# Altium footprint library FF_pcb_lib.PcbLib: 102 footprints (part 1 of 7)
Each footprint in its own frame and in the unit in brackets; x right, y up, seen from the top. Pads: shape width x height; smd on the part's side, far side on the other; paste and mask are expansions set on the pad; w line width, h text height; cw(c..) or ccw(c..) is an arc to the next point about the centre after c.
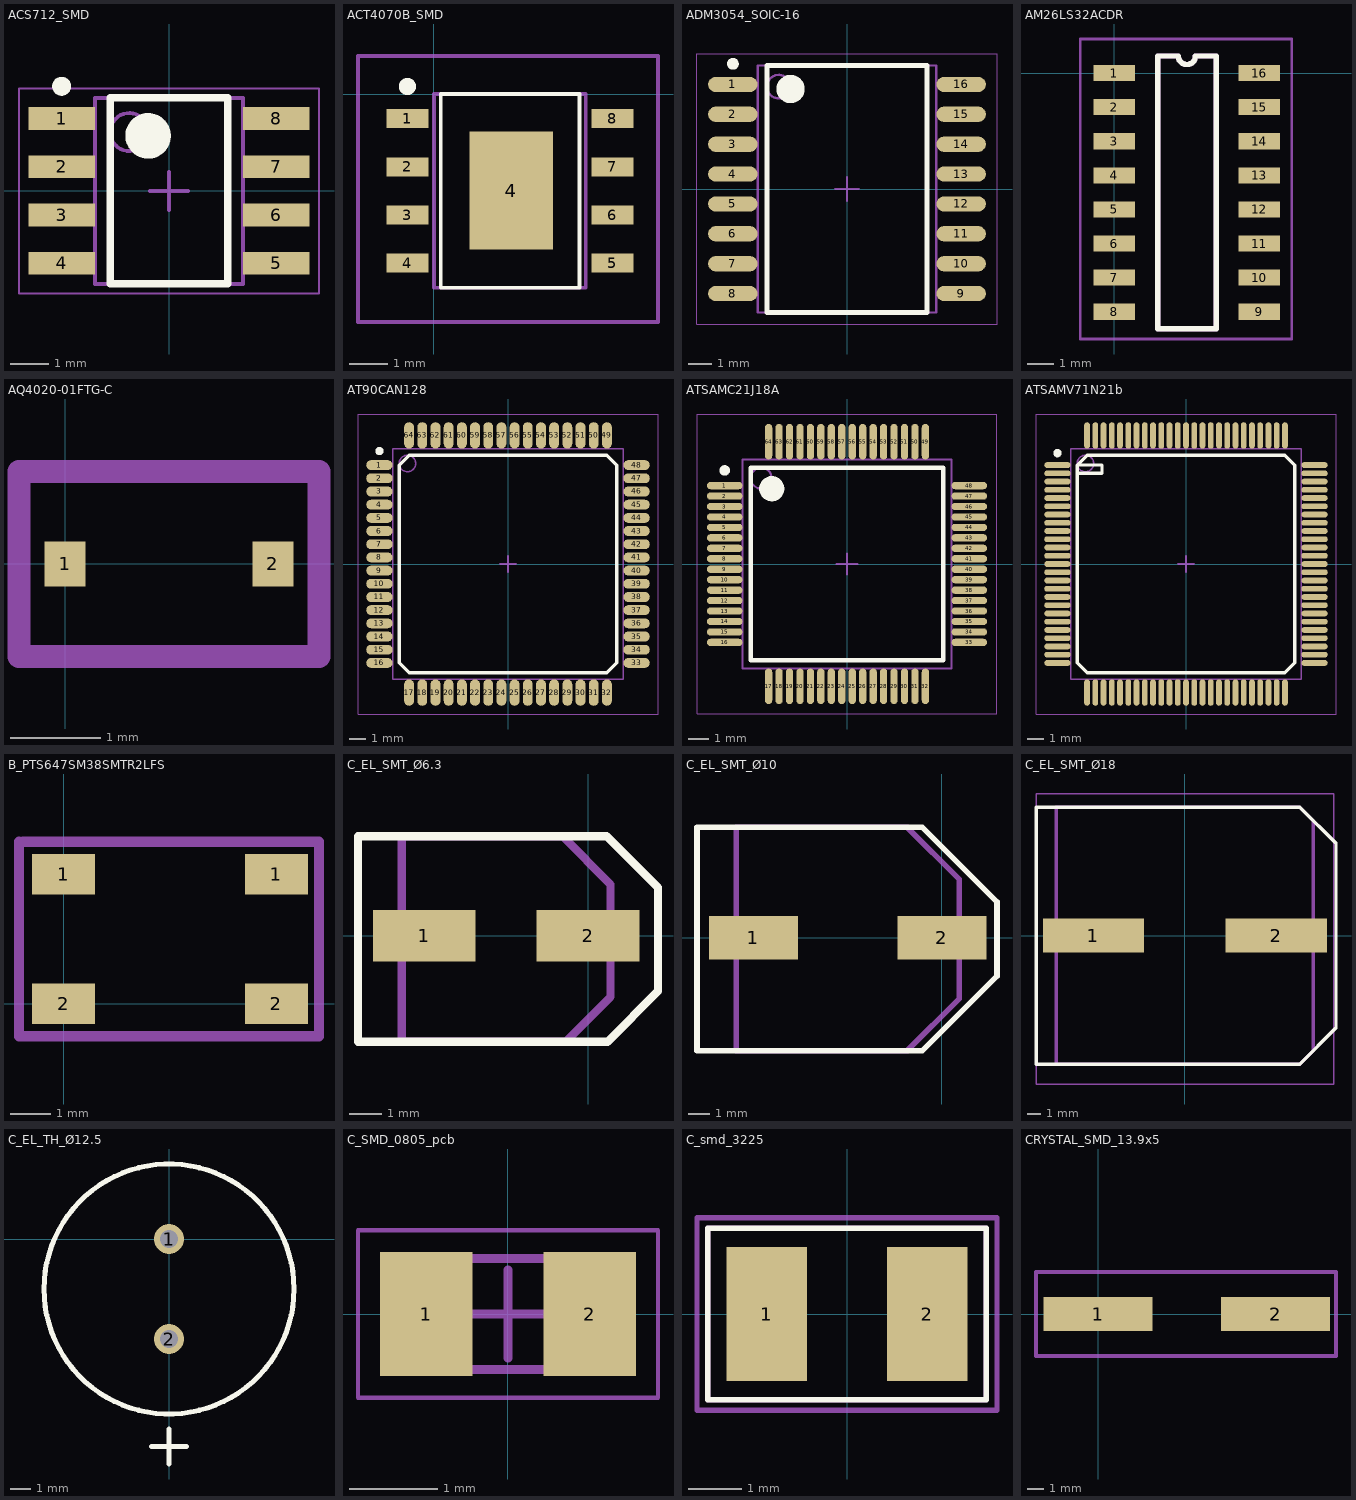
[diagram p0: the footprints below, top view; thin cyan lines are the x and y axes]

## ACS712_SMD [mm]
height 1.75
pads (8):
  rect 1.75x0.6 smd: 1(-2.825,1.905) 2(-2.825,0.635) 3(-2.825,-0.635) 4(-2.825,-1.905) 5(2.825,-1.905) 6(2.825,-0.635) 7(2.825,0.635) 8(2.825,1.905)
Top Overlay:
  circle w0.6: c-0.55,1.45 r0.3
  circle w0.25: c-2.825,2.755 r0.125
  lines w0.2: -1.55,-2.45 1.55,-2.45 1.55,2.45 -1.55,2.45 -1.55,-2.45
Mechanical 13:
  circle w0.1: c-1.05,1.55 r0.5
  lines w0.1: -1.95,-2.45 1.95,-2.45 1.95,2.45 -1.95,2.45 -1.95,-2.45
Mechanical 15:
  lines w0.05: -3.95,-2.7 3.95,-2.7 3.95,2.7 -3.95,2.7 -3.95,-2.7
  lines w0.1: -0.5,0 0.5,0 ; 0,-0.5 0,0.5
3D body "SOIC8-150-50.STEP": height 1.91, standoff 0, extent -3,-2.45 3,2.45

## ACT4070B_SMD [mm] "ACT4070B_SMD"
pads (9):
  rect 1.1x0.5 smd: 1(-0.7,-0.645) 2(-0.7,-1.915) 3(-0.7,-3.185) 4(-0.7,-4.455) 5(4.7,-4.455) 6(4.7,-3.185) 7(4.7,-1.915) 8(4.7,-0.645)
  rect 2.2x3.1 smd: 4(2.032,-2.54)
Top Overlay:
  circle w0.254: c-0.7,0.2 r0.1
  lines w0.1: 0.178,-5.1 3.835,-5.1 3.835,0 0.178,0 0.178,-5.1
Mechanical 13:
  lines w0.1: 0,-5.1 4,-5.1 4,0 0,0 0,-5.1
Mechanical 15:
  lines w0.1: -2,-6 -2,1 5.9,1 5.9,-6 -2,-6
3D body: height 1.05, standoff 0.05, extent 0.05,-5.15 3.95,-0.05

## ADM3054_SOIC-16 [mm]
height 2.65
pads (16):
  oval 2.1x0.65 smd: 1(-4.85,4.445) 2(-4.85,3.175) 3(-4.85,1.905) 4(-4.85,0.635) 5(-4.85,-0.635) 6(-4.85,-1.905) 7(-4.85,-3.175) 8(-4.85,-4.445) 9(4.85,-4.445) 10(4.85,-3.175) 11(4.85,-1.905) 12(4.85,-0.635) 13(4.85,0.635) 14(4.85,1.905) 15(4.85,3.175) 16(4.85,4.445)
Top Overlay:
  circle w0.6: c-2.4,4.25 r0.3
  circle w0.25: c-4.85,5.32 r0.125
  lines w0.2: -3.4,-5.25 3.4,-5.25 3.4,5.25 -3.4,5.25 -3.4,-5.25
Mechanical 13:
  circle w0.1: c-2.9,4.35 r0.5
  lines w0.1: -3.8,-5.25 3.8,-5.25 3.8,5.25 -3.8,5.25 -3.8,-5.25
Mechanical 15:
  lines w0.05: -6.375,-5.75 6.375,-5.75 6.375,5.75 -6.375,5.75 -6.375,-5.75
  lines w0.1: -0.5,0 0.5,0 ; 0,-0.5 0,0.5
3D body "S016W.stp": height 2.5, standoff 0, extent -5.15,-5.17 5.15,5.13

## AM26LS32ACDR [mm]
pads (16):
  rect 1.55x0.6 smd: 1(0,0) 2(0,-1.27) 3(0,-2.54) 4(0,-3.81) 5(0,-5.08) 6(0,-6.35) 7(0,-7.62) 8(0,-8.89) 9(5.4,-8.89) 10(5.4,-7.62) 11(5.4,-6.35) 12(5.4,-5.08) 13(5.4,-3.81) 14(5.4,-2.54) 15(5.4,-1.27) 16(5.4,0)
Top Overlay:
  lines w0.2: 1.61,-9.525 3.79,-9.525 3.79,0.635 3.017,0.635 cw(c2.7,0.635) 2.382,0.635 1.61,0.635 1.61,-9.525
Mechanical 13:
  lines w0.2: 1.61,-9.525 1.61,0.635 2.382,0.635 ccw(c2.7,0.635) 3.017,0.635 3.79,0.635 3.79,-9.525 1.61,-9.525
Mechanical 15:
  lines w0.1: -1.27,-9.906 6.604,-9.906 6.604,1.27 -1.27,1.27 -1.27,-9.906
3D body: height 1, standoff 0.1, extent 0.7,-9.8 0.7,-9.8
3D body: height 1.75, standoff 0.1, extent 1.1,-9.8 4.3,1.2

## AQ4020-01FTG-C [mm]
pads (2):
  rect 0.45x0.49 smd: 1(0,0) 2(2.286,0)
Courtyard:
  lines w0.254: -0.508,-1.016 -0.508,1.016 2.794,1.016 2.794,-1.016 -0.508,-1.016
3D body: height 1, standoff 0, extent 0,-0.762 2.286,0.762

## AT90CAN128 [mm] "CQFP, 64-Leads, Body 16,00x16,00mm, Pitch 0,80mm, IPC Low Density"
height 1.05
pads (64):
  oval 1.6x0.6 smd: 1(-7.8,6) 2(-7.8,5.2) 3(-7.8,4.4) 4(-7.8,3.6) 5(-7.8,2.8) 6(-7.8,2) 7(-7.8,1.2) 8(-7.8,0.4) 9(-7.8,-0.4) 10(-7.8,-1.2) 11(-7.8,-2) 12(-7.8,-2.8) 13(-7.8,-3.6) 14(-7.8,-4.4) 15(-7.8,-5.2) 16(-7.8,-6) 33(7.8,-6) 34(7.8,-5.2) 35(7.8,-4.4) 36(7.8,-3.6) 37(7.8,-2.8) 38(7.8,-2) 39(7.8,-1.2) 40(7.8,-0.4) 41(7.8,0.4) 42(7.8,1.2) 43(7.8,2) 44(7.8,2.8) 45(7.8,3.6) 46(7.8,4.4) 47(7.8,5.2) 48(7.8,6)
  oval 0.6x1.6 smd: 17(-6,-7.8) 18(-5.2,-7.8) 19(-4.4,-7.8) 20(-3.6,-7.8) 21(-2.8,-7.8) 22(-2,-7.8) 23(-1.2,-7.8) 24(-0.4,-7.8) 25(0.4,-7.8) 26(1.2,-7.8) 27(2,-7.8) 28(2.8,-7.8) 29(3.6,-7.8) 30(4.4,-7.8) 31(5.2,-7.8) 32(6,-7.8) 49(6,7.8) 50(5.2,7.8) 51(4.4,7.8) 52(3.6,7.8) 53(2.8,7.8) 54(2,7.8) 55(1.2,7.8) 56(0.4,7.8) 57(-0.4,7.8) 58(-1.2,7.8) 59(-2,7.8) 60(-2.8,7.8) 61(-3.6,7.8) 62(-4.4,7.8) 63(-5.2,7.8) 64(-6,7.8)
Top Overlay:
  circle w0.25: c-7.8,6.85 r0.125
  lines w0.2: -6.6,-6 -6,-6.6 6,-6.6 6.6,-6 6.6,6 6,6.6 -6,6.6 -6.6,6 -6.6,-6
Mechanical 13:
  circle w0.1: c-6.1,6.1 r0.5
  lines w0.1: -7,-7 7,-7 7,7 -7,7 -7,-7
Mechanical 15:
  lines w0.05: -9.1,-9.1 9.1,-9.1 9.1,9.1 -9.1,9.1 -9.1,-9.1
  lines w0.1: -0.5,0 0.5,0 ; 0,-0.5 0,0.5
3D body: height 1.05, standoff 0.05, extent -7,-7 7,7

## ATSAMC21J18A [mm] "ATSAMC21J18A, Microchip"
height 1.2
pads (64):
  oval 1.7x0.35 smd: 1(-5.85,3.75) 2(-5.85,3.25) 3(-5.85,2.75) 4(-5.85,2.25) 5(-5.85,1.75) 6(-5.85,1.25) 7(-5.85,0.75) 8(-5.85,0.25) 9(-5.85,-0.25) 10(-5.85,-0.75) 11(-5.85,-1.25) 12(-5.85,-1.75) 13(-5.85,-2.25) 14(-5.85,-2.75) 15(-5.85,-3.25) 16(-5.85,-3.75) 33(5.85,-3.75) 34(5.85,-3.25) 35(5.85,-2.75) 36(5.85,-2.25) 37(5.85,-1.75) 38(5.85,-1.25) 39(5.85,-0.75) 40(5.85,-0.25) 41(5.85,0.25) 42(5.85,0.75) 43(5.85,1.25) 44(5.85,1.75) 45(5.85,2.25) 46(5.85,2.75) 47(5.85,3.25) 48(5.85,3.75)
  oval 0.35x1.7 smd: 17(-3.75,-5.85) 18(-3.25,-5.85) 19(-2.75,-5.85) 20(-2.25,-5.85) 21(-1.75,-5.85) 22(-1.25,-5.85) 23(-0.75,-5.85) 24(-0.25,-5.85) 25(0.25,-5.85) 26(0.75,-5.85) 27(1.25,-5.85) 28(1.75,-5.85) 29(2.25,-5.85) 30(2.75,-5.85) 31(3.25,-5.85) 32(3.75,-5.85) 49(3.75,5.85) 50(3.25,5.85) 51(2.75,5.85) 52(2.25,5.85) 53(1.75,5.85) 54(1.25,5.85) 55(0.75,5.85) 56(0.25,5.85) 57(-0.25,5.85) 58(-0.75,5.85) 59(-1.25,5.85) 60(-1.75,5.85) 61(-2.25,5.85) 62(-2.75,5.85) 63(-3.25,5.85) 64(-3.75,5.85)
Top Overlay:
  circle w0.25: c-5.85,4.475 r0.125
  circle w0.6: c-3.6,3.6 r0.3
  lines w0.2: -4.6,-4.6 -4.6,4.6 4.6,4.6 4.6,-4.6 -4.6,-4.6
Mechanical 13:
  circle w0.1: c-4.1,4.1 r0.5
  lines w0.1: -5,-5 -5,5 5,5 5,-5 -5,-5
Mechanical 15:
  lines w0.05: -7.175,-7.175 -7.175,7.175 7.175,7.175 7.175,-7.175 -7.175,-7.175
  lines w0.1: -0.5,0 0.5,0 ; 0,-0.5 0,0.5
3D body: height 1.2, standoff 0.1, extent -5,-5 5,5

## ATSAMV71N21b [mm]
height 1.6
pads (100):
  oval 1.6x0.35 smd mask+0.05: 1(-7.8,6) 2(-7.8,5.5) 3(-7.8,5) 4(-7.8,4.5) 5(-7.8,4) 6(-7.8,3.5) 7(-7.8,3) 8(-7.8,2.5) 9(-7.8,2) 10(-7.8,1.5) 11(-7.8,1) 12(-7.8,0.5) 13(-7.8,0) 14(-7.8,-0.5) 15(-7.8,-1) 16(-7.8,-1.5) 17(-7.8,-2) 18(-7.8,-2.5) 19(-7.8,-3) 20(-7.8,-3.5) 21(-7.8,-4) 22(-7.8,-4.5) 23(-7.8,-5) 24(-7.8,-5.5) 25(-7.8,-6) 51(7.8,-6) 52(7.8,-5.5) 53(7.8,-5) 54(7.8,-4.5) 55(7.8,-4) 56(7.8,-3.5) 57(7.8,-3) 58(7.8,-2.5) 59(7.8,-2) 60(7.8,-1.5) 61(7.8,-1) 62(7.8,-0.5) 63(7.8,0) 64(7.8,0.5) 65(7.8,1) 66(7.8,1.5) 67(7.8,2) 68(7.8,2.5) 69(7.8,3) 70(7.8,3.5) 71(7.8,4) 72(7.8,4.5) 73(7.8,5) 74(7.8,5.5) 75(7.8,6)
  oval 0.35x1.6 smd mask+0.05: 26(-6,-7.8) 27(-5.5,-7.8) 28(-5,-7.8) 29(-4.5,-7.8) 30(-4,-7.8) 31(-3.5,-7.8) 32(-3,-7.8) 33(-2.5,-7.8) 34(-2,-7.8) 35(-1.5,-7.8) 36(-1,-7.8) 37(-0.5,-7.8) 38(0,-7.8) 39(0.5,-7.8) 40(1,-7.8) 41(1.5,-7.8) 42(2,-7.8) 43(2.5,-7.8) 44(3,-7.8) 45(3.5,-7.8) 46(4,-7.8) 47(4.5,-7.8) 48(5,-7.8) 49(5.5,-7.8) 50(6,-7.8) 76(6,7.8) 77(5.5,7.8) 78(5,7.8) 79(4.5,7.8) 80(4,7.8) 81(3.5,7.8) 82(3,7.8) 83(2.5,7.8) 84(2,7.8) 85(1.5,7.8) 86(1,7.8) 87(0.5,7.8) 88(0,7.8) 89(-0.5,7.8) 90(-1,7.8) 91(-1.5,7.8) 92(-2,7.8) 93(-2.5,7.8) 94(-3,7.8) 95(-3.5,7.8) 96(-4,7.8) 97(-4.5,7.8) 98(-5,7.8) 99(-5.5,7.8) 100(-6,7.8)
Top Overlay:
  circle w0.25: c-7.8,6.725 r0.125
  lines w0.2: -6.6,5.5 -5.1,5.5 -5.1,6 -6.6,6 ; -6.6,6 -6.6,-6 -6,-6.6 6,-6.6 6.6,-6 6.6,6 6,6.6 -6,6.6 -6.6,6
Top Assembly:
  circle w0.1: c-6.1,6.1 r0.5
  lines w0.1: -7,-7 -7,7 7,7 7,-7 -7,-7
Top Courtyard:
  lines w0.05: -9.1,-9.1 -9.1,9.1 9.1,9.1 9.1,-9.1 -9.1,-9.1
  lines w0.1: -0.5,0 0.5,0 ; 0,-0.5 0,0.5
3D body "pqfpfp100_p0-5_l14_w14.stp": height 1, standoff -0.1, extent -8,-8 8,8

## B_PTS647SM38SMTR2LFS [mm]
pads (4):
  rect 1.55x1 smd: 1(0,3.2) 1(5.25,3.2) 2(0,0) 2(5.25,0)
Courtyard:
  lines w0.254: -1.1,4 -1.1,-0.8 -1,-0.8 6.3,-0.8 6.3,4 -1,4
3D body: height 3, standoff 0, extent 0.3,-0.4 4.9,3.6

## C_EL_SMT_Ø6.3 [mm]
pads (2):
  rect 3.2x1.6 smd: 1(-5.1,0) 2(0,0)
Top Overlay:
  lines w0.254: -7.163,-3.3 0.6,-3.3 2.175,-1.725 2.175,1.5 0.575,3.1 -7.163,3.1 -7.163,-3.3
Courtyard:
  lines w0.254: -5.8,-3.3 -5.8,3.1 -0.8,3.1 0.7,1.6 0.7,-1.9 -0.7,-3.3 -5.8,-3.3
3D body "C_EL_SMD_6.3.stp": height 6.14, standoff 0, extent -6.074,-3.461 1.074,3.311

## C_EL_SMT_Ø10 [mm]
pads (2):
  rect 4.1x2 smd: 1(-8.7,0) 2(0,0)
Top Overlay:
  lines w0.254: -11.3,-5.2 -0.9,-5.2 2.54,-1.76 2.54,1.66 -0.9,5.1 -1.15,5.1 -11.3,5.1 -11.3,-5.2
Courtyard:
  lines w0.254: -9.5,-5.2 -9.5,5.1 -1.6,5.1 0.8,2.7 0.8,-2.8 -1.6,-5.2 -9.5,-5.2
3D body: height 10, standoff 0, extent -9.35,-5.05 0.65,4.95

## C_EL_SMT_Ø18 [mm]
pads (2):
  rect 7.5x2.5 smd: 1(-6.75,0) 2(6.75,0)
Top Overlay:
  lines w0.254: -10.975,-9.5 8.5,-9.5 11.175,-6.825 11.175,6.825 8.5,9.5 0,9.5 -10.975,9.5 -10.975,-9.5
Mechanical 13:
  lines w0.254: -9.5,-9.5 -9.5,9.5 0,9.5 8.5,9.5 9.5,8.5 9.5,-8.5 8.5,-9.5 -9.5,-9.5
Mechanical 15:
  lines w0.1: -11,-11 11,-11 11,10.5 -11,10.5 -11,-11
3D body: height 22.6, standoff 0.8, extent -9,-8.997 9,8.997

## C_EL_TH_Ø12.5 [mm]
pads (2):
  round 1.5 hole 0.9: 1(0,0) 2(0,-5)
Top Overlay:
  circle w0.254: c0,-2.5 r6.25
  lines w0.254: -0.875,-10.375 0.875,-10.375 ; 0,-11.25 0,-9.5
3D body "EC 12.5x25 P5 D0.6.STEP": height 25, standoff -1.8, extent -6.275,-8.75 6.225,3.75

## C_SMD_0805_pcb [mm] "Chip Capacitor, 2-Leads, Body 2,00x1,25mm, IPC Medium Density"
height 0.8
pads (2):
  rect 1.05x1.4 smd: 1(-0.925,0) 2(0.925,0)
Mechanical 13:
  lines w0.1: -1.075,-0.63 1.075,-0.63 1.075,0.63 -1.075,0.63 -1.075,-0.63
Mechanical 15:
  lines w0.05: -1.7,-0.95 1.7,-0.95 1.7,0.95 -1.7,0.95 -1.7,-0.95
  lines w0.1: -0.5,0 0.5,0 ; 0,-0.5 0,0.5
3D body "C0805_135.step": height 1.35, standoff 0, extent -1,-0.625 1,0.625

## C_smd_3225 [mm]
pads (2):
  rect 1.5x2.5 smd: 1(-1.5,0) 2(1.5,0)
Top Overlay:
  lines w0.1: -2.6,-1.6 2.6,-1.6 2.6,1.6 -2.6,1.6 -2.6,0 -2.6,-1.6
Mechanical 13:
  lines w0.1: -2.6,-1.6 -2.6,1.6 2.6,1.6 2.6,-1.6 -2.6,-1.6
Mechanical 15:
  lines w0.1: -2.8,-1.8 -2.8,1.8 2.8,1.8 2.8,-1.8 -2.8,-1.8
3D body: height 2.5, standoff 0.1, extent -1.7,-1.2 1.9,1.2

## CRYSTAL_SMD_13.9x5 [mm]
pads (2):
  rect 6.5x2 smd: 1(0,0) 2(10.6,0)
Courtyard:
  lines w0.254: -3.7,2.5 -3.7,-2.5 14.2,-2.5 14.2,2.5 -3.6,2.5
3D body: height 4.5, standoff 0, extent -2.8,-2.2 13.4,2.1